# Altium schematic symbol library CH340X.SchLib: 2 symbols
Pins are listed as number, name and electrical type; pins without a type are passive.

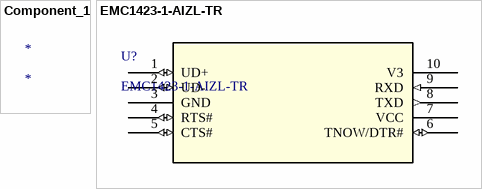
[diagram p0: symbols Component_1 to EMC1423-1-AIZL-TR]

## Component_1
designator *

## EMC1423-1-AIZL-TR
designator U?
No Description Available; Mfr_Name: Microchip; Copyright: Copyright (C) 2023 Ultra Librarian. All rights reserved.; Manufacturer_Part_Number: EMC1423-1-AIZL-TR; RefDes: RefDes; Type: DEV
footprint MSOP10_MC_MCH
pins: 1 UD+ (io), 2 UD- (io), 3 GND (power), 4 RTS# (io), 5 CTS# (io), 6 TNOW/DTR# (io), 7 VCC (power), 8 TXD (out), 9 RXD (in), 10 V3 (power)